# Altium footprint library Seeed-OPL-Moudle.PCBLIB: 18 footprints (part 1 of 2)
Each footprint in its own frame and in the unit in brackets; x right, y up, seen from the top. Pads: shape width x height; smd on the part's side, far side on the other; paste and mask are expansions set on the pad; w line width, h text height; cw(c..) or ccw(c..) is an arc to the next point about the centre after c.
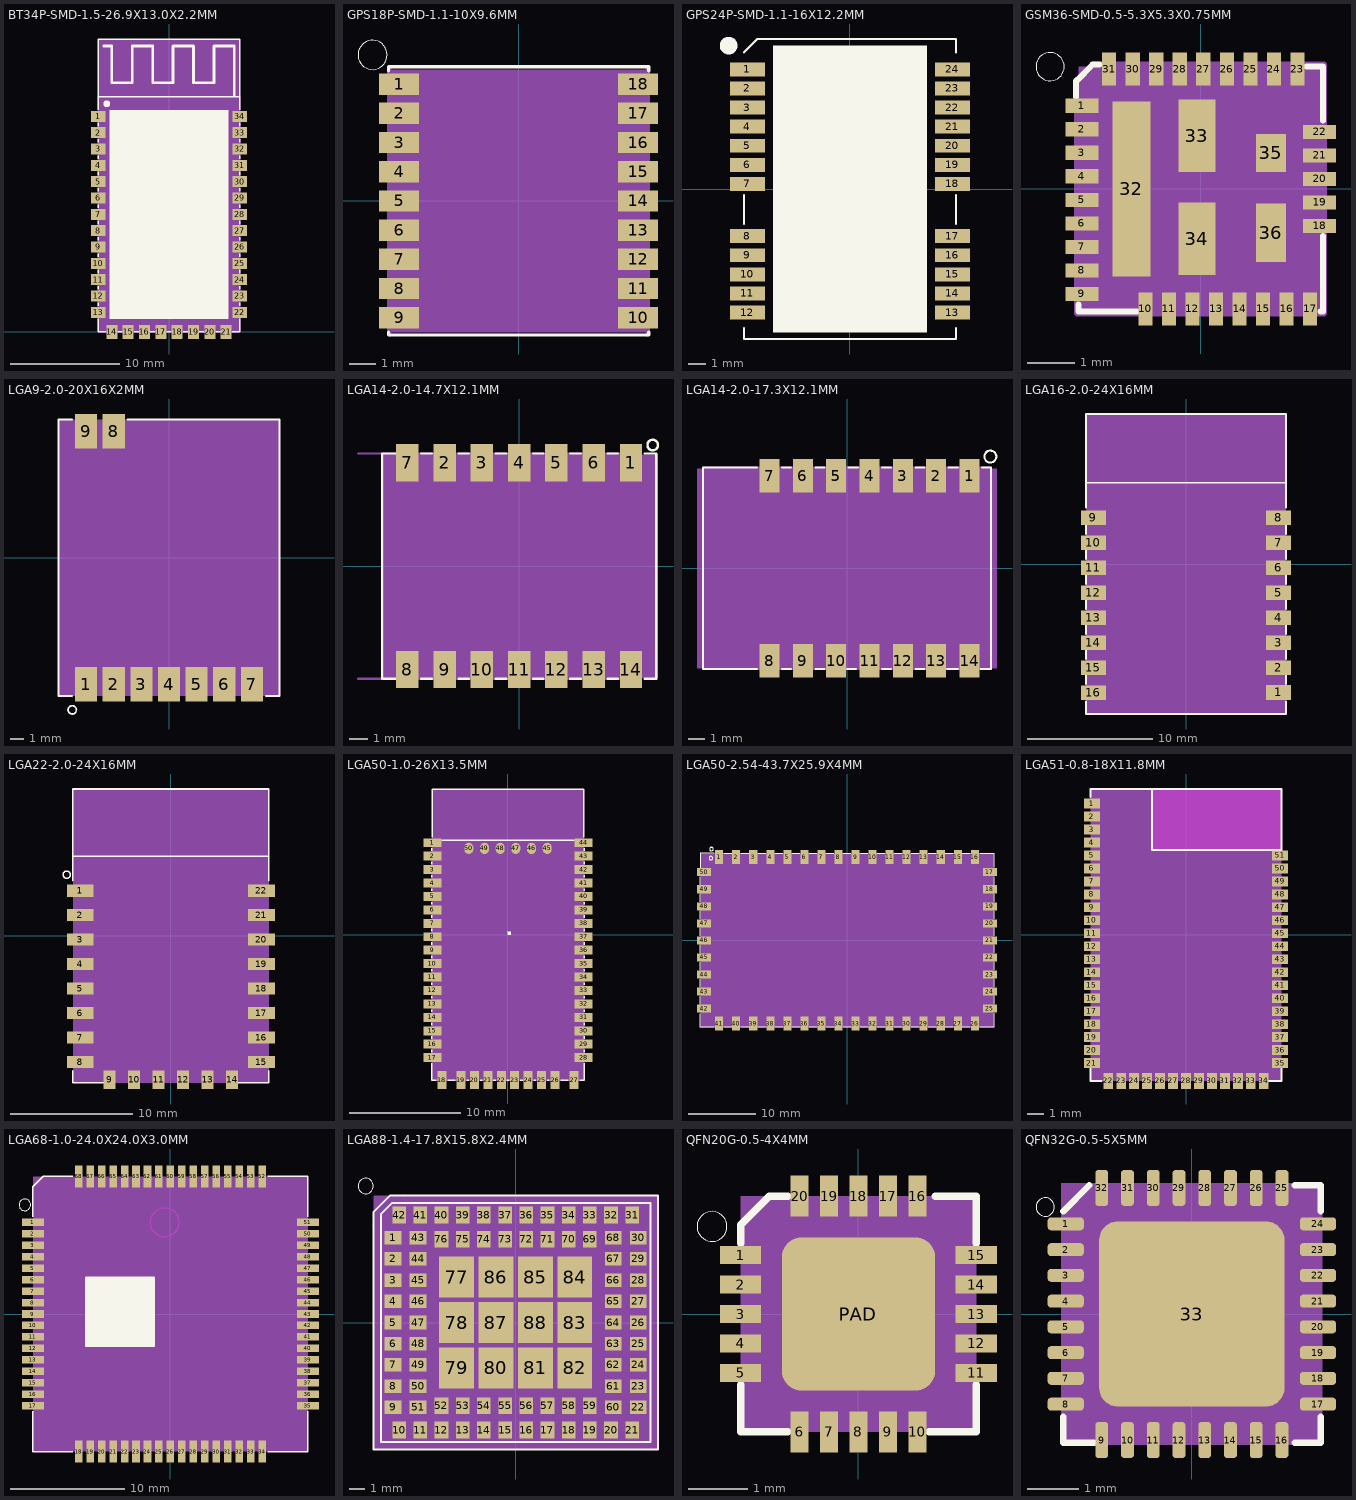
[diagram p0: the footprints below, top view; thin cyan lines are the x and y axes]

## BT34P-SMD-1.5-26.9X13.0X2.2MM [mm]
pads (34):
  rect 1.3x1 smd: 1(-6.5,19.8) 2(-6.5,18.3) 3(-6.5,16.8) 4(-6.5,15.3) 5(-6.5,13.8) 6(-6.5,12.3) 7(-6.5,10.8) 8(-6.5,9.3) 9(-6.5,7.8) 10(-6.5,6.3) 11(-6.5,4.8) 12(-6.5,3.3) 13(-6.5,1.8) 22(6.5,1.8) 23(6.5,3.3) 24(6.5,4.8) 25(6.5,6.3) 26(6.5,7.8) 27(6.5,9.3) 28(6.5,10.8) 29(6.5,12.3) 30(6.5,13.8) 31(6.5,15.3) 32(6.5,16.8) 33(6.5,18.3) 34(6.5,19.8)
  rect 1x1.3 smd: 14(-5.25,0) 15(-3.75,0) 16(-2.25,0) 17(-0.75,0) 18(0.75,0) 19(2.25,0) 20(3.75,0) 21(5.25,0)
Top Overlay:
  circle w0.381: c-5.715,20.955 r0.127
  rectangle: -5.461,1.206 5.461,20.383
  lines w0.127: -6.5,1.2 -6.5,0 -5.8,0 ; -6.5,2.4 -6.5,2.7 ; -6.5,3.9 -6.5,4.2 ; -6.5,5.4 -6.5,5.7 ; -6.5,6.9 -6.5,7.2 ; -6.5,8.4 -6.5,8.7 ; -6.5,9.9 -6.5,10.2 ; -6.5,11.4 -6.5,11.7 ; -6.5,12.9 -6.5,13.2 ; -6.5,14.4 -6.5,14.7 ; -6.5,15.9 -6.5,16.2 ; -6.5,17.4 -6.5,17.7 ; -6.5,18.9 -6.5,19.2 ; -6.5,20.4 -6.5,21.59 ; -4.7,0 -4.3,0 ; -3.2,0 -2.8,0 ; -1.7,0 -1.3,0 ; -0.2,0 0.2,0 ; 1.3,0 1.7,0 ; 2.8,0 3.2,0 ; 4.3,0 4.7,0 ; 5.8,0 6.5,0 6.5,1.2 ; 6.5,2.4 6.5,2.7 ; 6.5,3.9 6.5,4.2 ; 6.5,5.4 6.5,5.7 ; 6.5,6.9 6.5,7.2 ; 6.5,8.4 6.5,8.7 ; 6.5,9.9 6.5,10.2 ; 6.5,11.4 6.5,11.7 ; 6.5,12.9 6.5,13.2 ; 6.5,14.4 6.5,14.7 ; 6.5,15.9 6.5,16.2 ; 6.5,17.4 6.5,17.7 ; 6.5,18.9 6.5,19.2 ; 6.5,20.4 6.5,21.59 ; -6.5,21.59 -6.5,26.9 6.5,26.9 6.5,21.59 ; -6.5,21.59 6.5,21.59
  lines w0.254: -5.994,26.25 -5.25,26.25 -5.25,22.875 -3.375,22.875 -3.375,26.25 -1.5,26.25 -1.5,22.875 0.375,22.875 0.375,26.25 2.25,26.25 2.25,22.875 4.125,22.875 4.125,26.25 6,26.25 6,21.75
Mechanical 16:
  lines w0.127: -6.5,21.59 -6.5,0 6.5,0 6.5,21.59
Mechanical 27:
  rectangle: -6.5,0 6.5,26.9

## GPS18P-SMD-1.1-10X9.6MM [mil]
pads (18):
  rect 59.06x31.5 smd: 1(-177.17,173.23) 2(-177.17,129.92) 3(-177.17,86.61) 4(-177.17,43.31) 5(-177.17,0) 6(-177.17,-43.31) 7(-177.17,-86.61) 8(-177.17,-129.92) 9(-177.17,-173.23) 10(177.17,-173.23) 11(177.17,-129.92) 12(177.17,-86.61) 13(177.17,-43.31) 14(177.17,0) 15(177.17,43.31) 16(177.17,86.61) 17(177.17,129.92) 18(177.17,173.23)
Top Overlay:
  circle w0: c-216.54,216.54 r21.65
  lines w5: -192.91,-198.82 -192.91,-194.88 ; -192.91,192.91 -192.91,198.82 ; -190.94,-198.82 190.94,-198.82 ; -190.94,198.82 190.94,198.82 ; 192.91,-198.82 192.91,-194.88 ; 192.91,192.91 192.91,198.82
Mechanical 16:
  lines w5: -190.94,-198.82 -190.94,198.82 ; 190.94,-198.82 190.94,198.82
Mechanical 27:
  rectangle: -194.88,-194.88 194.88,194.88

## GPS24P-SMD-1.1-16X12.2MM [mil]
pads (24):
  rect 78.74x31.5 smd: 1(-232.44,271.18) 2(-232.44,227.87) 3(-232.44,184.57) 4(-232.44,141.26) 5(-232.44,97.95) 6(-232.44,54.65) 7(-232.44,11.34) 8(-232.44,-106.77) 9(-232.44,-150.08) 10(-232.44,-193.39) 11(-232.44,-236.69) 12(-232.44,-280) 13(232.13,-280) 14(232.13,-236.69) 15(232.13,-193.39) 16(232.13,-150.08) 17(232.13,-106.77) 18(232.13,11.34) 19(232.13,54.65) 20(232.13,97.95) 21(232.13,141.26) 22(232.13,184.57) 23(232.13,227.87) 24(232.13,271.18)
Top Overlay:
  circle w20: c-275,325 r10
  rectangle: -175,-325 175,325
  lines w5: -240,-315 -240,-340 240,-340 240,-315 ; -240,-78.74 -240,-13.78 ; -240,310 -210,340 240,340 240,310 ; 240,-78.74 240,-13.78

## GSM36-SMD-0.5-5.3X5.3X0.75MM [mm]
pads (36):
  rect 0.7x0.3 smd: 1(-2.525,1.77) 2(-2.525,1.27) 3(-2.525,0.77) 4(-2.525,0.27) 5(-2.525,-0.23) 6(-2.525,-0.73) 7(-2.525,-1.23) 8(-2.525,-1.73) 9(-2.525,-2.23) 18(2.525,-0.785) 19(2.525,-0.285) 20(2.525,0.215) 21(2.525,0.715) 22(2.525,1.215)
  rect 0.3x0.7 smd: 10(-1.175,-2.55) 11(-0.675,-2.55) 12(-0.175,-2.55) 13(0.325,-2.55) 14(0.825,-2.55) 15(1.325,-2.55) 16(1.825,-2.55) 17(2.325,-2.55) 23(2.055,2.55) 24(1.555,2.55) 25(1.055,2.55) 26(0.555,2.55) 27(0.055,2.55) 28(-0.445,2.55) 29(-0.945,2.55) 30(-1.445,2.55) 31(-1.945,2.55)
  rect 0.805x3.715 smd: 32(-1.473,0)
  rect 0.785x1.535 smd: 33(-0.083,1.133) 34(-0.083,-1.055)
  rect 0.635x0.8 smd: 35(1.493,0.765)
  rect 0.635x1.245 smd: 36(1.493,-0.933)
Top Overlay:
  circle w0: c-3.2,2.6 r0.3
  lines w0.127: -2.65,1.95 -2.65,2.3 ; -2.625,2.314 -2.289,2.65 ; -2.6,-2.45 -2.6,-2.6 -1.35,-2.6 ; -2.3,2.65 -2.15,2.65 ; 2.25,2.6 2.6,2.6 2.6,1.45 ; 2.55,-2.6 2.6,-2.6 2.6,-1
Mechanical 16:
  lines w0.127: -2.625,2.314 -2.625,-2.65 2.625,-2.65 2.625,2.65 -2.289,2.65
Mechanical 27:
  rectangle: -2.6,-2.6 2.6,2.6

## LGA9-2.0-20X16X2MM [mm]
pads (9):
  rect 1.6x2.5 smd: 1(-6,-9.15) 2(-4,-9.15) 3(-2,-9.15) 4(0,-9.15) 5(2,-9.15) 6(4,-9.15) 7(6,-9.15) 8(-4,9.15) 9(-6,9.15)
Top Overlay:
  circle w0.127: c-7,-11 r0.3
  lines w0.127: -7,-10 -8,-10 -8,10 -7,10 ; -3,10 8,10 8,-10 7,-10
Mechanical 27:
  rectangle: -8,-10 8,10

## LGA14-2.0-14.7X12.1MM [mm]
pads (14):
  rect 1.2x2 smd: 1(6,5.55) 2(-4,5.55) 3(-2,5.55) 4(0,5.55) 5(2,5.55) 6(4,5.55) 7(-6,5.55) 8(-6,-5.55) 9(-4,-5.55) 10(-2,-5.55) 11(0,-5.55) 12(2,-5.55) 13(4,-5.55) 14(6,-5.55)
Top Overlay:
  circle w0.127: c7.17,6.5 r0.283
  lines w0.127: -6.6,-6.05 -7.35,-6.05 -7.35,6.05 -6.6,6.05 ; -5.25,-6.05 -4.7,-6.05 ; -5.25,6.05 -4.7,6.05 ; -3.25,-6.05 -2.7,-6.05 ; -3.25,6.05 -2.7,6.05 ; -1.25,-6.05 -0.7,-6.05 ; -1.25,6.05 -0.7,6.05 ; 0.75,-6.05 1.3,-6.05 ; 0.75,6.05 1.3,6.05 ; 2.75,-6.05 3.3,-6.05 ; 2.75,6.05 3.3,6.05 ; 4.75,-6.05 5.3,-6.05 ; 4.75,6.05 5.3,6.05 ; 6.75,-6.05 7.35,-6.05 7.35,6.05 6.75,6.05
Mechanical 16:
  lines w0.127: -8.65,-6.05 6.05,-6.05 ; -8.65,6.05 6.05,6.05
Mechanical 27:
  rectangle: -7.25,-6 7.45,6

## LGA14-2.0-17.3X12.1MM [mm]
pads (14):
  rect 1.2x2 smd: 1(7.35,5.55) 2(5.35,5.55) 3(3.35,5.55) 4(1.35,5.55) 5(-0.65,5.55) 6(-2.65,5.55) 7(-4.65,5.55) 8(-4.65,-5.55) 9(-2.65,-5.55) 10(-0.65,-5.55) 11(1.35,-5.55) 12(3.35,-5.55) 13(5.35,-5.55) 14(7.35,-5.55)
Top Overlay:
  circle w0.127: c8.6,6.7 r0.361
  lines w0.127: -8.65,-6.05 -8.65,6.05 ; -8.6,-6.05 -5.4,-6.05 ; -8.6,6.05 -5.4,6.05 ; -3.9,-6.05 -3.35,-6.05 ; -3.9,6.05 -3.35,6.05 ; -1.9,-6.05 -1.35,-6.05 ; -1.9,6.05 -1.35,6.05 ; 0,-6.05 0.55,-6.05 ; 0.1,6.05 0.65,6.05 ; 2.1,-6.05 2.65,-6.05 ; 2.1,6.05 2.65,6.05 ; 4.1,-6.05 4.65,-6.05 ; 4.1,6.05 4.65,6.05 ; 6,-6.05 6.65,-6.05 ; 6.1,6.05 6.65,6.05 ; 8,-6.05 8.65,-6.05 8.65,6.05 8.1,6.05
Mechanical 16:
  lines w0.127: -8.65,-6.05 8.65,-6.05 ; -8.65,6.05 8.65,6.05
Mechanical 27:
  rectangle: -9,-6 9,6

## LGA16-2.0-24X16MM [mm]
pads (16):
  rect 2x1.2 smd: 1(7.4,-10.27) 2(7.4,-8.3) 3(7.4,-6.3) 4(7.4,-4.3) 5(7.4,-2.3) 6(7.4,-0.3) 7(7.4,1.7) 8(7.4,3.7) 9(-7.4,3.7) 10(-7.4,1.7) 11(-7.4,-0.3) 12(-7.4,-2.3) 13(-7.4,-4.3) 14(-7.4,-6.3) 15(-7.4,-8.3) 16(-7.4,-10.3)
Top Overlay:
  lines w0.127: -8,-11 -8,-12 8,-12 8,-11 ; -8,-9.6 -8,-8.9 ; -8,-7.6 -8,-6.9 ; -8,-5.6 -8,-4.9 ; -8,-3.6 -8,-2.9 ; -8,-1.6 -8,-0.9 ; -8,0.4 -8,1.1 ; -8,2.4 -8,3.1 ; -8,4.5 -8,6.5 ; 8,-9.6 8,-8.9 ; 8,-7.6 8,-6.9 ; 8,-5.6 8,-4.9 ; 8,-3.6 8,-2.9 ; 8,-1.6 8,-0.9 ; 8,0.4 8,1.1 ; 8,2.4 8,3.1 ; 8,4.5 8,6.5 ; -8,6.5 -8,12 8,12 8,6.5 ; -8,6.5 8,6.5
Mechanical 27:
  rectangle: -8,-12 8,12

## LGA22-2.0-24X16MM [mm]
pads (22):
  rect 2.2x1 smd: 1(-7.4,3.7) 2(-7.4,1.7) 3(-7.4,-0.3) 4(-7.4,-2.3) 5(-7.4,-4.3) 6(-7.4,-6.3) 7(-7.4,-8.3) 8(-7.4,-10.3) 15(7.4,-10.3) 16(7.4,-8.3) 17(7.4,-6.3) 18(7.4,-4.3) 19(7.4,-2.3) 20(7.4,-0.3) 21(7.4,1.7) 22(7.4,3.7)
  rect 1x1.5 smd: 9(-5,-11.75) 10(-3,-11.75) 11(-1,-11.75) 12(1,-11.75) 13(3,-11.75) 14(5,-11.75)
Top Overlay:
  circle w0.127: c-8.5,5 r0.3
  lines w0.127: -8,-11 -8,-12 -5.5,-12 ; -8,4.5 -8,6.5 ; 5.5,-12 8,-12 8,-11 ; 8,4.5 8,6.5 ; -8,6.5 -8,12 8,12 8,6.5 ; -8,6.5 8,6.5
Mechanical 27:
  rectangle: -8,-12 8,12

## LGA50-1.0-26X13.5MM [mil]
pads (50):
  rect 62.99x31.5 smd: 1(-265.75,322.83) 2(-265.75,275.59) 3(-265.75,228.35) 4(-265.75,181.1) 5(-265.75,133.86) 6(-265.75,86.61) 7(-265.75,39.37) 8(-265.75,-7.87) 9(-265.75,-55.12) 10(-265.75,-102.36) 11(-265.75,-149.61) 12(-265.75,-196.85) 13(-265.75,-244.09) 14(-265.75,-291.34) 15(-265.75,-338.58) 16(-265.75,-385.83) 17(-265.75,-433.07) 28(265.75,-433.07) 29(265.75,-385.83) 30(265.75,-338.58) 31(265.75,-291.34) 32(265.75,-244.09) 33(265.75,-196.85) 34(265.75,-149.61) 35(265.75,-102.36) 36(265.75,-55.12) 37(265.75,-7.87) 38(265.75,39.37) 39(265.75,86.61) 40(265.75,133.86) 41(265.75,181.1) 42(265.75,228.35) 43(265.75,275.59) 44(265.75,322.83)
  rect 31.5x62.99 smd: 18(-232.28,-511.81) 19(-165.35,-511.81) 20(-118.11,-511.81) 21(-70.87,-511.81) 22(-23.62,-511.81) 23(23.62,-511.81) 24(70.87,-511.81) 25(118.11,-511.81) 26(165.35,-511.81) 27(232.28,-511.81)
  rrect100% 31.5x39.37 smd: 45(137.8,303.15) 46(82.68,303.15) 47(27.56,303.15) 48(-27.56,303.15) 49(-82.68,303.15) 50(-137.8,303.15)
Top Overlay:
  region: 0,0 10,0 10,10 0,10
  lines w5: -267.72,-452.76 -267.72,-511.81 -251.97,-511.81 ; -267.72,-413.39 -267.72,-405.51 ; -267.72,-366.14 -267.72,-358.27 ; -267.72,-318.9 -267.72,-311.02 ; -267.72,-271.65 -267.72,-263.78 ; -267.72,-224.41 -267.72,-216.54 ; -267.72,-177.17 -267.72,-169.29 ; -267.72,-129.92 -267.72,-122.05 ; -267.72,-82.68 -267.72,-74.8 ; -267.72,-35.43 -267.72,-27.56 ; -267.72,11.81 -267.72,19.69 ; -267.72,59.06 -267.72,66.93 ; -267.72,106.3 -267.72,114.17 ; -267.72,153.54 -267.72,161.42 ; -267.72,200.79 -267.72,208.66 ; -267.72,248.03 -267.72,255.91 ; -267.72,295.28 -267.72,303.15 ; -265.75,342.52 -265.75,511.81 265.75,511.81 265.75,342.52 ; -232.28,330.71 232.28,330.71 ; -212.6,-511.81 -185.04,-511.81 ; -145.67,-511.81 -137.8,-511.81 ; -98.43,-511.81 -90.55,-511.81 ; -51.18,-511.81 -43.31,-511.81 ; -3.94,-511.81 3.94,-511.81 ; 43.31,-511.81 51.18,-511.81 ; 90.55,-511.81 98.43,-511.81 ; 137.8,-511.81 145.67,-511.81 ; 185.04,-511.81 212.6,-511.81 ; 251.97,-511.81 267.72,-511.81 267.72,-452.76 ; 267.72,-413.39 267.72,-405.51 ; 267.72,-366.14 267.72,-358.27 ; 267.72,-318.9 267.72,-311.02 ; 267.72,-271.65 267.72,-263.78 ; 267.72,-224.41 267.72,-216.54 ; 267.72,-177.17 267.72,-169.29 ; 267.72,-129.92 267.72,-122.05 ; 267.72,-82.68 267.72,-74.8 ; 267.72,-35.43 267.72,-27.56 ; 267.72,11.81 267.72,19.69 ; 267.72,59.06 267.72,66.93 ; 267.72,106.3 267.72,114.17 ; 267.72,153.54 267.72,161.42 ; 267.72,200.79 267.72,208.66 ; 267.72,248.03 267.72,255.91 ; 267.72,295.28 267.72,303.15
Mechanical 16:
  lines w5: -265.75,-511.81 265.75,-511.81 265.75,330.71 -265.75,330.71 -265.75,-511.81
Mechanical 27:
  rectangle: -267.72,-511.81 267.72,511.81

## LGA50-2.54-43.7X25.9X4MM [mm]
pads (50):
  rect 1.2x2.1 smd: 1(-19.05,12.4) 2(-16.51,12.4) 3(-13.97,12.4) 4(-11.43,12.4) 5(-8.89,12.4) 6(-6.35,12.4) 7(-3.81,12.4) 8(-1.27,12.4) 9(1.27,12.4) 10(3.81,12.4) 11(6.35,12.4) 12(8.89,12.4) 13(11.43,12.4) 14(13.97,12.4) 15(16.51,12.4) 16(19.05,12.4) 26(19.05,-12.4) 27(16.51,-12.4) 28(13.97,-12.4) 29(11.43,-12.4) 30(8.89,-12.4) 31(6.35,-12.4) 32(3.81,-12.4) 33(1.27,-12.4) 34(-1.27,-12.4) 35(-3.81,-12.4) 36(-6.35,-12.4) 37(-8.89,-12.4) 38(-11.43,-12.4) 39(-13.97,-12.4) 40(-16.51,-12.4) 41(-19.05,-12.4)
  rect 2.1x1.2 smd: 17(21.3,10.16) 18(21.3,7.62) 19(21.3,5.08) 20(21.3,2.54) 21(21.3,0) 22(21.3,-2.54) 23(21.3,-5.08) 24(21.3,-7.62) 25(21.3,-10.16) 42(-21.3,-10.16) 43(-21.3,-7.62) 44(-21.3,-5.08) 45(-21.3,-2.54) 46(-21.3,0) 47(-21.3,2.54) 48(-21.3,5.08) 49(-21.3,7.62) 50(-21.3,10.16)
Top Overlay:
  circle w0.127: c-20.2,13.6 r0.269
  circle w0.127: c-20.28,12.25 r0.269
  lines w0.127: -21.85,-10.9 -21.85,-12.95 -19.75,-12.95 ; -21.85,-9.5 -21.85,-8.3 ; -21.85,-6.96 -21.85,-5.76 ; -21.85,-4.42 -21.85,-3.22 ; -21.85,-1.88 -21.85,-0.68 ; -21.85,0.66 -21.85,1.86 ; -21.85,3.2 -21.85,4.4 ; -21.85,5.74 -21.85,6.94 ; -21.85,8.28 -21.85,9.48 ; -21.85,10.85 -21.85,12.95 -19.75,12.95 ; -18.4,12.95 -17.2,12.95 ; -18.36,-12.95 -17.16,-12.95 ; -15.86,12.95 -14.66,12.95 ; -15.82,-12.95 -14.62,-12.95 ; -13.32,12.95 -12.12,12.95 ; -13.28,-12.95 -12.08,-12.95 ; -10.78,12.95 -9.58,12.95 ; -10.74,-12.95 -9.54,-12.95 ; -8.24,12.95 -7.04,12.95 ; -8.2,-12.95 -7,-12.95 ; -5.7,12.95 -4.5,12.95 ; -5.66,-12.95 -4.46,-12.95 ; -3.16,12.95 -1.96,12.95 ; -3.12,-12.95 -1.92,-12.95 ; -0.62,12.95 0.58,12.95 ; -0.58,-12.95 0.62,-12.95 ; 1.92,12.95 3.12,12.95 ; 1.96,-12.95 3.16,-12.95 ; 4.46,12.95 5.66,12.95 ; 4.5,-12.95 5.7,-12.95 ; 7,12.95 8.2,12.95 ; 7.04,-12.95 8.24,-12.95 ; 9.54,12.95 10.74,12.95 ; 9.58,-12.95 10.78,-12.95 ; 12.08,12.95 13.28,12.95 ; 12.12,-12.95 13.32,-12.95 ; 14.62,12.95 15.82,12.95 ; 14.66,-12.95 15.86,-12.95 ; 17.16,12.95 18.36,12.95 ; 17.2,-12.95 18.4,-12.95 ; 19.75,-12.95 21.85,-12.95 21.85,-10.85 ; 19.75,12.95 21.85,12.95 21.85,10.9 ; 21.85,-9.48 21.85,-8.28 ; 21.85,-6.94 21.85,-5.74 ; 21.85,-4.4 21.85,-3.2 ; 21.85,-1.86 21.85,-0.66 ; 21.85,0.68 21.85,1.88 ; 21.85,3.22 21.85,4.42 ; 21.85,5.76 21.85,6.96 ; 21.85,8.3 21.85,9.5
Mechanical 27:
  rectangle: -21.85,-12.95 21.85,12.95

## LGA51-0.8-18X11.8MM [mm]
pads (51):
  rect 1x0.6 smd: 1(-5.8,8.1) 2(-5.8,7.3) 3(-5.8,6.5) 4(-5.8,5.7) 5(-5.8,4.9) 6(-5.8,4.1) 7(-5.8,3.3) 8(-5.8,2.5) 9(-5.8,1.7) 10(-5.8,0.9) 11(-5.8,0.1) 12(-5.8,-0.7) 13(-5.8,-1.5) 14(-5.8,-2.3) 15(-5.8,-3.1) 16(-5.8,-3.9) 17(-5.8,-4.7) 18(-5.8,-5.5) 19(-5.8,-6.3) 20(-5.8,-7.1) 21(-5.8,-7.9) 35(5.8,-7.9) 36(5.8,-7.1) 37(5.8,-6.3) 38(5.8,-5.5) 39(5.8,-4.7) 40(5.8,-3.9) 41(5.8,-3.1) 42(5.8,-2.3) 43(5.8,-1.5) 44(5.8,-0.7) 45(5.8,0.1) 46(5.8,0.9) 47(5.8,1.7) 48(5.8,2.5) 49(5.8,3.3) 50(5.8,4.1) 51(5.8,4.9)
  rect 0.6x1 smd: 22(-4.8,-9) 23(-4,-9) 24(-3.2,-9) 25(-2.4,-9) 26(-1.6,-9) 27(-0.8,-9) 28(0,-9) 29(0.8,-9) 30(1.6,-9) 31(2.4,-9) 32(3.2,-9) 33(4,-9) 34(4.8,-9)
Top Overlay:
  lines w0.127: -5.9,-8.2 -5.9,-9 -5.2,-9 ; -5.9,8.5 -5.9,9 -2.1,9 ; 5.1,-9 5.9,-9 5.9,-8.2 ; 5.9,5.2 5.9,5.25 ; -2.1,9 5.9,9 5.9,5.3 5.9,5.25 ; -2.1,9 -2.1,5.25 5.9,5.25
Mechanical 8 keep-out:
  rectangle: -2.1,5.2 5.9,9
Mechanical 9 keep-out:
  rectangle: -2.1,5.2 5.9,9
Mechanical 27:
  rectangle: -5.9,-9 5.9,9

## LGA68-1.0-24.0X24.0X3.0MM [mil]
pads (68):
  rect 76x26 smd: 1(-472.44,314.96) 2(-472.44,275.59) 3(-472.44,236.22) 4(-472.44,196.85) 5(-472.44,157.48) 6(-472.44,118.11) 7(-472.44,78.74) 8(-472.44,39.37) 9(-472.44,0) 10(-472.44,-39.37) 11(-472.44,-78.74) 12(-472.44,-118.11) 13(-472.44,-157.48) 14(-472.44,-196.85) 15(-472.44,-236.22) 16(-472.44,-275.59) 17(-472.44,-314.96) 35(472.44,-314.96) 36(472.44,-275.59) 37(472.44,-236.22) 38(472.44,-196.85) 39(472.44,-157.48) 40(472.44,-118.11) 41(472.44,-78.74) 42(472.44,-39.37) 43(472.44,0) 44(472.44,39.37) 45(472.44,78.74) 46(472.44,118.11) 47(472.44,157.48) 48(472.44,196.85) 49(472.44,236.22) 50(472.44,275.59) 51(472.44,314.96)
  rect 26x76 smd: 18(-314.96,-472.44) 19(-275.59,-472.44) 20(-236.22,-472.44) 21(-196.85,-472.44) 22(-157.48,-472.44) 23(-118.11,-472.44) 24(-78.74,-472.44) 25(-39.37,-472.44) 26(0,-472.44) 27(39.37,-472.44) 28(78.74,-472.44) 29(118.11,-472.44) 30(157.48,-472.44) 31(196.85,-472.44) 32(236.22,-472.44) 33(275.59,-472.44) 34(314.96,-472.44) 52(314.96,472.44) 53(275.59,472.44) 54(236.22,472.44) 55(196.85,472.44) 56(157.48,472.44) 57(118.11,472.44) 58(78.74,472.44) 59(39.37,472.44) 60(0,472.44) 61(-39.37,472.44) 62(-78.74,472.44) 63(-118.11,472.44) 64(-157.48,472.44) 65(-196.85,472.44) 66(-236.22,472.44) 67(-275.59,472.44) 68(-314.96,472.44)
Top Overlay:
  circle w0: c-500,375 r20
  rectangle: -291.34,-110.24 -55.12,125.98
  lines w5: -472.44,-334.65 -472.44,-472.44 -334.65,-472.44 ; -472.44,334.65 -472.44,436.99 -436.99,472.44 -334.65,472.44 ; 334.65,-472.44 472.44,-472.44 472.44,-334.65 ; 334.65,472.44 472.44,472.44 472.44,334.65 ; -291.34,-110.24 -55.12,-110.24 -55.12,125.98 -291.34,125.98 -291.34,-110.24
Mechanical 8 keep-out:
  circle w5: c-19.69,314.96 r49.33
Mechanical 16:
  text "This area should be covered by silkscreen" at -295.28,55.12 h8.5
  text "to prevent form the short  between the via on" at -295.28,39.37 h8.5
  text "customer board and the test points on" at -295.28,23.62 h8.5
  text "the bottom side of the module" at -295.28,7.87 h8.5
  text "Keep route out area" at -94.49,311.02 h8.5
Mechanical 27:
  rectangle: -472.44,-472.44 472.44,472.44

## LGA88-1.4-17.8X15.8X2.4MM [mm]
pads (88):
  rect 1.1x0.9 smd: 1(-8.1,5.6) 2(-8.1,4.2) 3(-8.1,2.8) 4(-8.1,1.4) 5(-8.1,0) 6(-8.1,-1.4) 7(-8.1,-2.8) 8(-8.1,-4.2) 9(-8.1,-5.6) 22(8.1,-5.6) 23(8.1,-4.2) 24(8.1,-2.8) 25(8.1,-1.4) 26(8.1,0) 27(8.1,1.4) 28(8.1,2.8) 29(8.1,4.2) 30(8.1,5.6) 43(-6.45,5.6) 44(-6.45,4.2) 45(-6.45,2.8) 46(-6.45,1.4) 47(-6.45,0) 48(-6.45,-1.4) 49(-6.45,-2.8) 50(-6.45,-4.2) 51(-6.45,-5.6) 60(6.45,-5.6) 61(6.45,-4.2) 62(6.45,-2.8) 63(6.45,-1.4) 64(6.45,0) 65(6.45,1.4) 66(6.45,2.8) 67(6.45,4.2) 68(6.45,5.6)
  rect 0.9x1.1 smd: 10(-7.7,-7.1) 11(-6.3,-7.1) 12(-4.9,-7.1) 13(-3.5,-7.1) 14(-2.1,-7.1) 15(-0.7,-7.1) 16(0.7,-7.1) 17(2.1,-7.1) 18(3.5,-7.1) 19(4.9,-7.1) 20(6.3,-7.1) 21(7.7,-7.1) 31(7.7,7.1) 32(6.3,7.1) 33(4.9,7.1) 34(3.5,7.1) 35(2.1,7.1) 36(0.7,7.1) 37(-0.7,7.1) 38(-2.1,7.1) 39(-3.5,7.1) 40(-4.9,7.1) 41(-6.3,7.1) 42(-7.7,7.1) 52(-4.9,-5.5) 53(-3.5,-5.5) 54(-2.1,-5.5) 55(-0.7,-5.5) 56(0.7,-5.5) 57(2.1,-5.5) 58(3.5,-5.5) 59(4.9,-5.5) 69(4.9,5.5) 70(3.5,5.5) 71(2.1,5.5) 72(0.7,5.5) 73(-0.7,5.5) 74(-2.1,5.5) 75(-3.5,5.5) 76(-4.9,5.5)
  rect 2.3x2.7 smd: 77(-3.9,3) 78(-3.9,0) 79(-3.9,-3) 80(-1.3,-3) 81(1.3,-3) 82(3.9,-3) 83(3.9,0) 84(3.9,3) 85(1.3,3) 86(-1.3,3) 87(-1.3,0) 88(1.3,0)
Top Overlay:
  circle w0: c-9.906,9.017 r0.508
  lines w0.127: -9.4,-8.4 -9.4,7.282 -8.282,8.4 -7.402,8.4 -7.4,8.4 9.4,8.4 9.4,-8.4 -9.4,-8.4 ; -8.9,-7.9 -8.9,7.138 -8.138,7.9 8.9,7.9 8.9,-7.9 -8.9,-7.9
Mechanical 16:
  lines w0.127: -9.4,6.402 -7.402,8.4 ; -8.9,6.222 -7.222,7.9
Mechanical 27:
  rectangle: -9.4,-8.4 9.4,8.4

## QFN20G-0.5-4X4MM [mm]
pads (21):
  rect 0.7x0.3 smd: 1(-2,1) 2(-2,0.5) 3(-2,0) 4(-2,-0.5) 5(-2,-1) 11(2,-1) 12(2,-0.5) 13(2,0) 14(2,0.5) 15(2,1)
  rect 0.3x0.7 smd: 6(-1,-2) 7(-0.5,-2) 8(0,-2) 9(0.5,-2) 10(1,-2) 16(1,2) 17(0.5,2) 18(0,2) 19(-0.5,2) 20(-1,2)
  rrect25% 2.6x2.6 smd: PAD(0,0)
Top Overlay:
  circle w0: c-2.486,1.486 r0.254
  lines w0.127: -2,-1.2 -2,-2 -1.2,-2 ; -2,1.2 -2,1.5 ; -2,1.515 -1.515,2 ; -1.5,2 -1.2,2 ; 1.2,-2 2,-2 2,-1.2 ; 1.3,2 2,2 2,1.2
Mechanical 27:
  rectangle: -2,-2 2,2

## QFN32G-0.5-5X5MM [mm]
pads (33):
  rrect50% 0.7x0.25 smd: 1(-2.45,1.75) 2(-2.45,1.25) 3(-2.45,0.75) 4(-2.45,0.25) 5(-2.45,-0.25) 6(-2.45,-0.75) 7(-2.45,-1.25) 8(-2.45,-1.75) 17(2.45,-1.75) 18(2.45,-1.25) 19(2.45,-0.75) 20(2.45,-0.25) 21(2.45,0.25) 22(2.45,0.75) 23(2.45,1.25) 24(2.45,1.75)
  rrect50% 0.25x0.7 smd: 9(-1.75,-2.45) 10(-1.25,-2.45) 11(-0.75,-2.45) 12(-0.25,-2.45) 13(0.25,-2.45) 14(0.75,-2.45) 15(1.25,-2.45) 16(1.75,-2.45) 25(1.75,2.45) 26(1.25,2.45) 27(0.75,2.45) 28(0.25,2.45) 29(-0.25,2.45) 30(-0.75,2.45) 31(-1.25,2.45) 32(-1.75,2.45)
  rrect20% 3.6x3.6 smd: 33(0,0)
Top Overlay:
  circle w0: c-2.848,2.078 r0.18
  lines w0.127: -2.5,-2 -2.5,-2.5 -1.9,-2.5 ; -2.5,1.992 -1.992,2.5 ; 2,-2.5 2.5,-2.5 2.5,-2 ; 2,2.5 2.5,2.5 2.5,2
Mechanical 27:
  rectangle: -2.54,-2.54 2.54,2.54